# EAGLE library part 74*2G125 (library 74xx-little-de)
Dual line drivers with 3-state outputs.
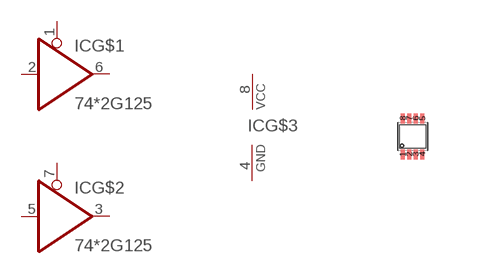
[diagram p2: symbol with the pads of SSOP08; footprint SSOP08]

Designator prefix IC; gates G$1=74125 G$2=74125 G$3=PWRN

## 742G125DCT, 74LVC2G125DCT  [SSOP08]
1  G$1:OE  in
2  G$1:I  in
3  G$2:O  hiz
4  G$3:GND  pwr
5  G$2:I  in
6  G$1:O  hiz
7  G$2:OE  in
8  G$3:VCC  pwr

## Footprint SSOP08 (pad centres in mm)
SMT SSOP 08
smd 0.1 x 0.25: 1 -0.244,-0.45; 2 -0.081,-0.45; 3 0.081,-0.45; 4 0.244,-0.45; 5 0.244,0.45; 6 0.081,0.45; 7 -0.081,0.45; 8 -0.244,0.45